# EAGLE library part SIM868 (library SIM868)
Gsm/Gprs+Gnss Module
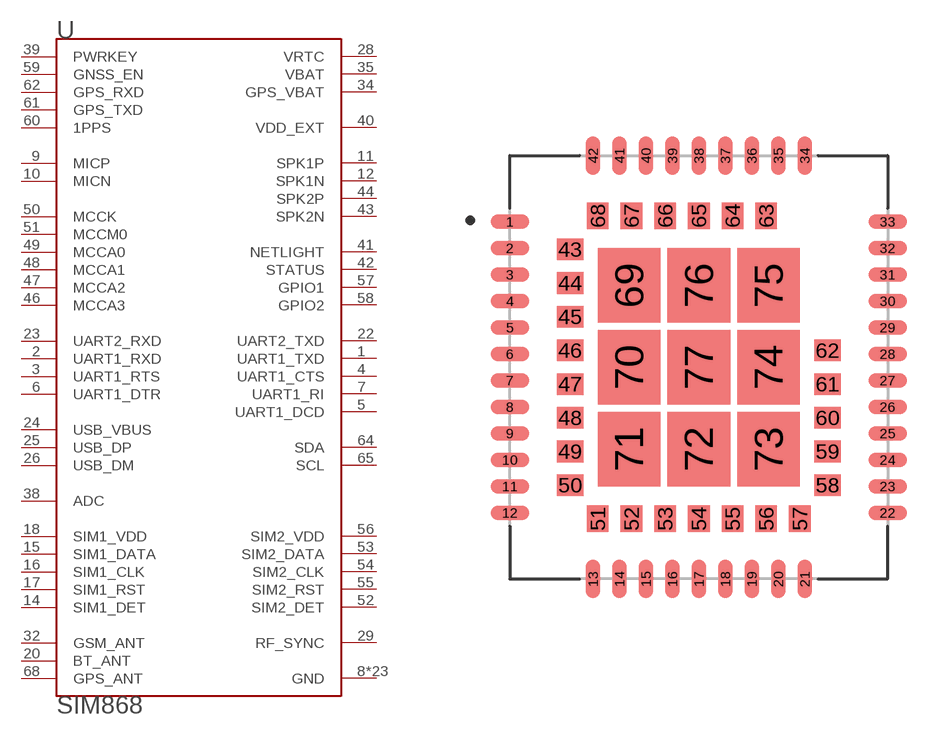
[diagram p0: symbol with the pads of XCVR_SIM868; footprint XCVR_SIM868]

Designator prefix U

## SIM868 (Availability: Unavailable; Description: Gsm/Gprs+Gnss Module; MF: Simcom; MP: SIM868; Package: None; Price: 17.88 USD)  [XCVR_SIM868]
1  UART1_TXD  out
2  UART1_RXD  in
3  UART1_RTS  in
4  UART1_CTS  out
5  UART1_DCD  out
6  UART1_DTR  in
7  UART1_RI  out
8  GND  pwr
9  MICP  in
10  MICN  in
11  SPK1P  out
12  SPK1N  out
13  GND  pwr
14  SIM1_DET  in
15  SIM1_DATA
16  SIM1_CLK  out
17  SIM1_RST  out
18  SIM1_VDD  out
19  GND  pwr
20  BT_ANT
21  GND  pwr
22  UART2_TXD  out
23  UART2_RXD  in
24  USB_VBUS  in
25  USB_DP
26  USB_DM
27  GND  pwr
28  VRTC  pwr
29  RF_SYNC  out
30  GND  pwr
31  GND  pwr
32  GSM_ANT
33  GND  pwr
34  GPS_VBAT  pwr
35  VBAT  pwr
36  GND  pwr
37  GND  pwr
38  ADC  in
39  PWRKEY  in
40  VDD_EXT  out
41  NETLIGHT  out
42  STATUS  out
43  SPK2N  out
44  SPK2P  out
45  GND  pwr
46  MCCA3
47  MCCA2
48  MCCA1
49  MCCA0
50  MCCK
51  MCCM0
52  SIM2_DET  in
53  SIM2_DATA
54  SIM2_CLK  out
55  SIM2_RST  out
56  SIM2_VDD  out
57  GPIO1
58  GPIO2
59  GNSS_EN  in
60  1PPS  out
61  GPS_TXD  out
62  GPS_RXD  in
63  GND  pwr
64  SDA
65  SCL  out
66  GND  pwr
67  GND  pwr
68  GPS_ANT  in
69  GND  pwr
70  GND  pwr
71  GND  pwr
72  GND  pwr
73  GND  pwr
74  GND  pwr
75  GND  pwr
76  GND  pwr
77  GND  pwr

## Footprint XCVR_SIM868 (pad centres in mm)
smd 1.6 x 0.6: 1 -7.85,6.05; 2 -7.85,4.95; 3 -7.85,3.85; 4 -7.85,2.75; 5 -7.85,1.65; 6 -7.85,0.55; 7 -7.85,-0.55; 8 -7.85,-1.65; 9 -7.85,-2.75; 10 -7.85,-3.85; 11 -7.85,-4.95; 12 -7.85,-6.05; 22 7.85,-6.05; 23 7.85,-4.95; 24 7.85,-3.85; 25 7.85,-2.75; 26 7.85,-1.65; 27 7.85,-0.55; 28 7.85,0.55; 29 7.85,1.65; 30 7.85,2.75; 31 7.85,3.85; 32 7.85,4.95; 33 7.85,6.05
smd 0.6 x 1.6: 13 -4.4,-8.8; 14 -3.3,-8.8; 15 -2.2,-8.8; 16 -1.1,-8.8; 17 0,-8.8; 18 1.1,-8.8; 19 2.2,-8.8; 20 3.3,-8.8; 21 4.4,-8.8; 34 4.4,8.8; 35 3.3,8.8; 36 2.2,8.8; 37 1.1,8.8; 38 0,8.8; 39 -1.1,8.8; 40 -2.2,8.8; 41 -3.3,8.8; 42 -4.4,8.8
smd 1.1 x 0.9: 43 -5.35,4.9; 44 -5.35,3.5; 45 -5.35,2.1; 46 -5.35,0.7; 47 -5.35,-0.7; 48 -5.35,-2.1; 49 -5.35,-3.5; 50 -5.35,-4.9; 58 5.35,-4.9; 59 5.35,-3.5; 60 5.35,-2.1; 61 5.35,-0.7; 62 5.35,0.7
smd 0.9 x 1.1: 51 -4.2,-6.3; 52 -2.8,-6.3; 53 -1.4,-6.3; 54 0,-6.3; 55 1.4,-6.3; 56 2.8,-6.3; 57 4.2,-6.3; 63 2.8,6.3; 64 1.4,6.3; 65 0,6.3; 66 -1.4,6.3; 67 -2.8,6.3; 68 -4.2,6.3
smd 2.6 x 3.1: 69 -2.9,3.4; 70 -2.9,0; 71 -2.9,-3.4; 72 0,-3.4; 73 2.9,-3.4; 74 2.9,0; 75 2.9,3.4; 76 0,3.4; 77 0,0